# EAGLE library part PE42742 (library radu-collected)
Peregrine PE42750 RF SPDT switch with 75Ohm termination, disconnect and unpowered operation.
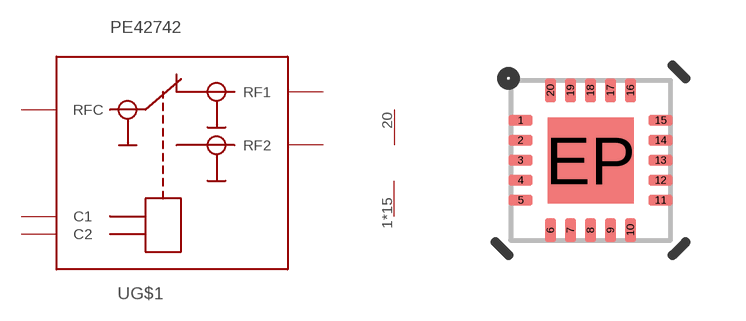
[diagram p12: symbol with the pads of QFN20_4X4_EP; footprint QFN20_4X4_EP]

Designator prefix U; gates G$1=PE42742 G$2=PWR+-

## PE42742G-20  [QFN20_4X4_EP]
1  G$2:V-  pwr
2  G$2:V-  pwr
3  G$1:RF1  pas
4  G$2:V-  pwr
5  G$2:V-  pwr
6  G$2:V-  pwr
7  G$2:V-  pwr
8  G$1:RFC  pas
9  G$2:V-  pwr
10  G$2:V-  pwr
11  G$2:V-  pwr
12  G$2:V-  pwr
13  G$1:RF2  pas
14  G$2:V-  pwr
15  G$2:V-  pwr
16  G$1:C2  in
17  G$1:C1  in
18  G$2:V-  pwr
19  G$2:V-  pwr
20  G$2:V+  pwr
EP  G$2:V-  pwr

## Footprint QFN20_4X4_EP (pad centres in mm)
QFN 20-pin 4x4mm with exposed pad Micro Lead Frame package (MLF)
smd 0.6 x 0.28: 1 -1.75,1; 2 -1.75,0.5; 3 -1.75,0; 4 -1.75,-0.5; 5 -1.75,-1; 11 1.75,-1; 12 1.75,-0.5; 13 1.75,0; 14 1.75,0.5; 15 1.75,1
smd 0.28 x 0.6: 6 -1,-1.75; 7 -0.5,-1.75; 8 0,-1.75; 9 0.5,-1.75; 10 1,-1.75; 16 1,1.75; 17 0.5,1.75; 18 0,1.75; 19 -0.5,1.75; 20 -1,1.75
smd 2.15 x 2.15: EP 0,0